# Altium footprint library TSR22450.PcbLib: 1 footprints
Each footprint in its own frame and in the unit in brackets; x right, y up, seen from the top. Pads: shape width x height; smd on the part's side, far side on the other; paste and mask are expansions set on the pad; w line width, h text height; cw(c..) or ccw(c..) is an arc to the next point about the centre after c.
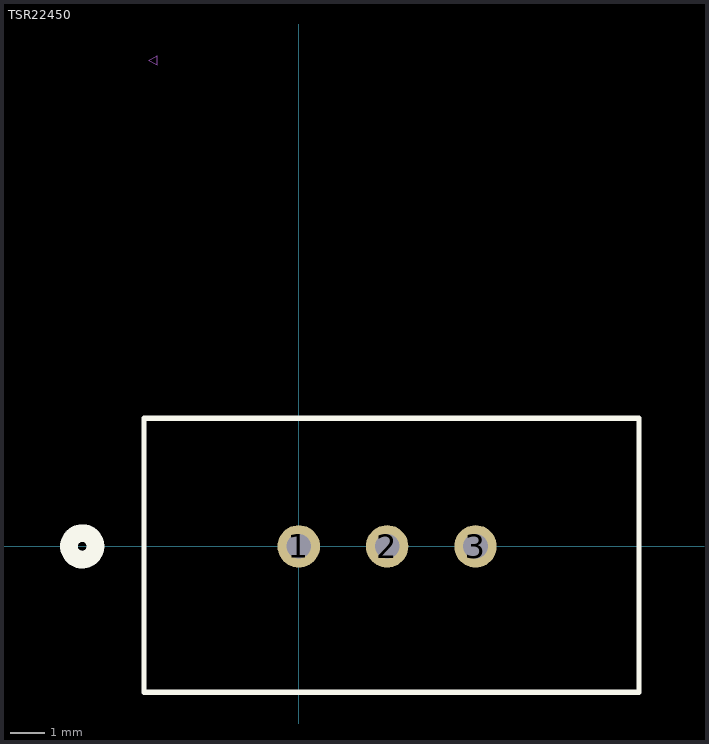
[diagram p0: the footprint, top view; thin cyan lines are the x and y axes]

## TSR22450 [mil]
pads (3):
  round 48 hole 28 mask+0: 1(0,0) 2(100,0) 3(200,0)
Top Overlay:
  circle w20: c-245,0 r15
  lines w6: -175,-165 -175,145 385,145 385,-165 -175,-165
Bottom Overlay:
  circle w20: c-245,0 r15
Mechanical 7:
  lines w1: -170,550 -160,545 -160,555 -170,550
3D body: height 10, standoff 0, extent 0,0 10,10